# EAGLE library part WL1-N2R2S1KT-GHNN (library Tactile Switches - WL1 Series)
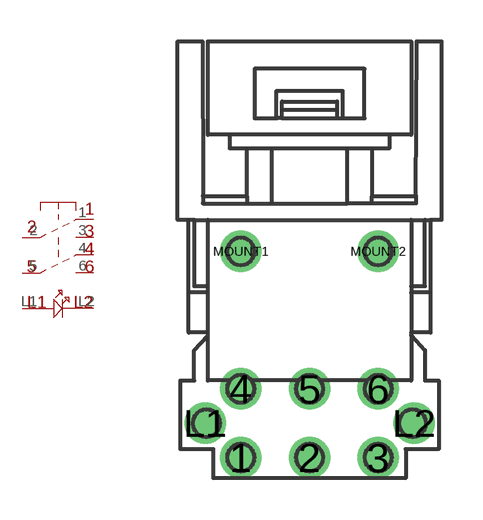
[diagram p0: symbol with the pads of WL1-N1R2S1KS-*H; footprint WL1-N1R2S1KS-*H]

Designator prefix -

## WL1-N2R2S1KT-GHNN  [WL1-N1R2S1KS-*H]
1  P1
2  P2
3  P3
4  P4
5  P5
6  P6
L1  L1
L2  L2

## Footprint WL1-N1R2S1KS-*H (pad centres in mm)
drill 1: 1 -2.5,-2.5; 2 0,-2.5; 3 2.5,-2.5; 4 -2.5,0; 5 0,0; 6 2.5,0; L1 -3.8,-1.25; L2 3.8,-1.25; MOUNT1 -2.5,5; MOUNT2 2.5,5